# Altium schematic symbol library SCH - MCU - ATSAM - MICROCHIP ATSAMG55J19A-MU QFN64.SchLib: 1 symbol
Pins are listed as number, name and electrical type; pins without a type are passive.

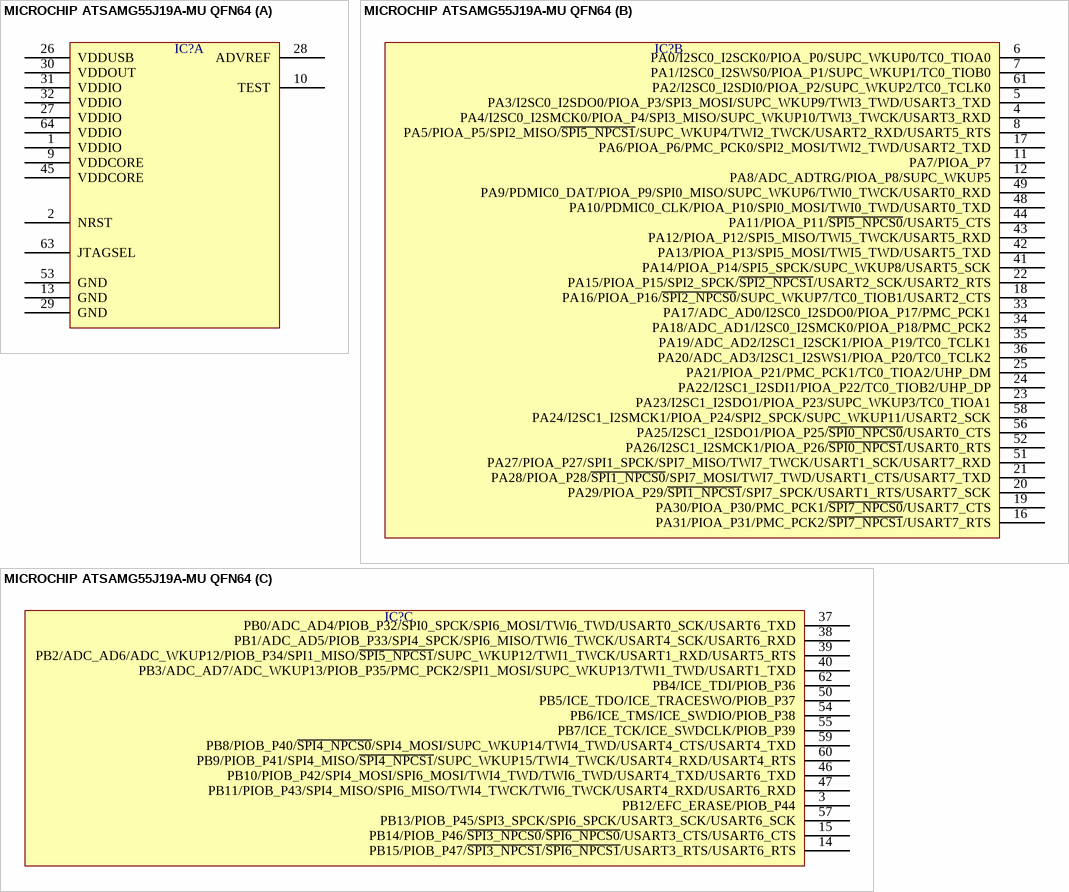
[diagram p0: symbol MICROCHIP ATSAMG55J19A-MU QFN64]

## MICROCHIP ATSAMG55J19A-MU QFN64
designator IC?  (value not drawn)
part A pins: 1 VDDIO, 2 NRST, 9 VDDCORE, 10 TEST, 13 GND, 26 VDDUSB, 27 VDDIO, 28 ADVREF, 29 GND, 30 VDDOUT, 31 VDDIO, 32 VDDIO, 45 VDDCORE, 53 GND, 63 JTAGSEL, 64 VDDIO
part B pins: 4 PA4/I2SC0_I2SMCK0/PIOA_P4/SPI3_MISO/SUPC_WKUP10/TWI3_TWCK/USART3_RXD, 5 PA3/I2SC0_I2SDO0/PIOA_P3/SPI3_MOSI/SUPC_WKUP9/TWI3_TWD/USART3_TXD, 6 PA0/I2SC0_I2SCK0/PIOA_P0/SUPC_WKUP0/TC0_TIOA0, 7 PA1/I2SC0_I2SWS0/PIOA_P1/SUPC_WKUP1/TC0_TIOB0, 8 PA5/PIOA_P5/SPI2_MISO/~{SPI5_NPCS1}/SUPC_WKUP4/TWI2_TWCK/USART2_RXD/USART5_RTS, 11 PA7/PIOA_P7, 12 PA8/ADC_ADTRG/PIOA_P8/SUPC_WKUP5, 16 PA31/PIOA_P31/PMC_PCK2/~{SPI7_NPCS1}/USART7_RTS, 17 PA6/PIOA_P6/PMC_PCK0/SPI2_MOSI/TWI2_TWD/USART2_TXD, 18 PA16/PIOA_P16/~{SPI2_NPCS0}/SUPC_WKUP7/TC0_TIOB1/USART2_CTS, 19 PA30/PIOA_P30/PMC_PCK1/~{SPI7_NPCS0}/USART7_CTS, 20 PA29/PIOA_P29/~{SPI1_NPCS1}/SPI7_SPCK/USART1_RTS/USART7_SCK, 21 PA28/PIOA_P28/~{SPI1_NPCS0}/SPI7_MOSI/TWI7_TWD/USART1_CTS/USART7_TXD, 22 PA15/PIOA_P15/SPI2_SPCK/~{SPI2_NPCS1}/USART2_SCK/USART2_RTS, 23 PA23/I2SC1_I2SDO1/PIOA_P23/SUPC_WKUP3/TC0_TIOA1, 24 PA22/I2SC1_I2SDI1/PIOA_P22/TC0_TIOB2/UHP_DP, 25 PA21/PIOA_P21/PMC_PCK1/TC0_TIOA2/UHP_DM, 33 PA17/ADC_AD0/I2SC0_I2SDO0/PIOA_P17/PMC_PCK1, 34 PA18/ADC_AD1/I2SC0_I2SMCK0/PIOA_P18/PMC_PCK2, 35 PA19/ADC_AD2/I2SC1_I2SCK1/PIOA_P19/TC0_TCLK1, 36 PA20/ADC_AD3/I2SC1_I2SWS1/PIOA_P20/TC0_TCLK2, 41 PA14/PIOA_P14/SPI5_SPCK/SUPC_WKUP8/USART5_SCK, 42 PA13/PIOA_P13/SPI5_MOSI/TWI5_TWD/USART5_TXD, 43 PA12/PIOA_P12/SPI5_MISO/TWI5_TWCK/USART5_RXD, 44 PA11/PIOA_P11/~{SPI5_NPCS0}/USART5_CTS, 48 PA10/PDMIC0_CLK/PIOA_P10/SPI0_MOSI/TWI0_TWD/USART0_TXD, 49 PA9/PDMIC0_DAT/PIOA_P9/SPI0_MISO/SUPC_WKUP6/TWI0_TWCK/USART0_RXD, 51 PA27/PIOA_P27/SPI1_SPCK/SPI7_MISO/TWI7_TWCK/USART1_SCK/USART7_RXD, 52 PA26/I2SC1_I2SMCK1/PIOA_P26/~{SPI0_NPCS1}/USART0_RTS, 56 PA25/I2SC1_I2SDO1/PIOA_P25/~{SPI0_NPCS0}/USART0_CTS, 58 PA24/I2SC1_I2SMCK1/PIOA_P24/SPI2_SPCK/SUPC_WKUP11/USART2_SCK, 61 PA2/I2SC0_I2SDI0/PIOA_P2/SUPC_WKUP2/TC0_TCLK0
part C pins: 3 PB12/EFC_ERASE/PIOB_P44, 14 PB15/PIOB_P47/~{SPI3_NPCS1}/~{SPI6_NPCS1}/USART3_RTS/USART6_RTS, 15 PB14/PIOB_P46/~{SPI3_NPCS0}/~{SPI6_NPCS0}/USART3_CTS/USART6_CTS, 37 PB0/ADC_AD4/PIOB_P32/SPI0_SPCK/SPI6_MOSI/TWI6_TWD/USART0_SCK/USART6_TXD, 38 PB1/ADC_AD5/PIOB_P33/SPI4_SPCK/SPI6_MISO/TWI6_TWCK/USART4_SCK/USART6_RXD, 39 PB2/ADC_AD6/ADC_WKUP12/PIOB_P34/SPI1_MISO/~{SPI5_NPCS1}/SUPC_WKUP12/TWI1_TWCK/USART1_RXD/USART5_RTS, 40 PB3/ADC_AD7/ADC_WKUP13/PIOB_P35/PMC_PCK2/SPI1_MOSI/SUPC_WKUP13/TWI1_TWD/USART1_TXD, 46 PB10/PIOB_P42/SPI4_MOSI/SPI6_MOSI/TWI4_TWD/TWI6_TWD/USART4_TXD/USART6_TXD, 47 PB11/PIOB_P43/SPI4_MISO/SPI6_MISO/TWI4_TWCK/TWI6_TWCK/USART4_RXD/USART6_RXD, 50 PB5/ICE_TDO/ICE_TRACESWO/PIOB_P37, 54 PB6/ICE_TMS/ICE_SWDIO/PIOB_P38, 55 PB7/ICE_TCK/ICE_SWDCLK/PIOB_P39, 57 PB13/PIOB_P45/SPI3_SPCK/SPI6_SPCK/USART3_SCK/USART6_SCK, 59 PB8/PIOB_P40/~{SPI4_NPCS0}/SPI4_MOSI/SUPC_WKUP14/TWI4_TWD/USART4_CTS/USART4_TXD, 60 PB9/PIOB_P41/SPI4_MISO/~{SPI4_NPCS1}/SUPC_WKUP15/TWI4_TWCK/USART4_RXD/USART4_RTS, 62 PB4/ICE_TDI/PIOB_P36